# EAGLE library part FFC/FPC8 (library vikc-connector)
FFC/FPC Connector 0.5mm Pitch 8 position
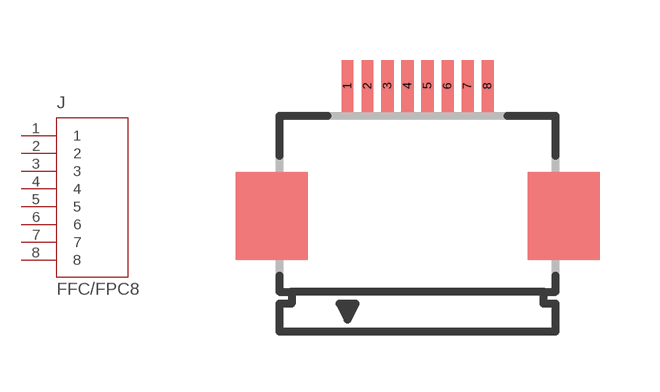
[diagram p2: symbol with the pads of FH12-8S-0.5SH; footprint FH12-8S-0.5SH]

Designator prefix J

## FFC/FPC8  [FH12-8S-0.5SH]
1  1
2  2
3  3
4  4
5  5
6  6
7  7
8  8

## Footprint FH12-8S-0.5SH (pad centres in mm)
0.5mm Pitch Connectors For FPC/FFC Source: Data sheet <http://www.hirose.co.jp/cataloge_hp/e58605370.pdf>
smd 0.3 x 1.3: 1 -1.75,3.25; 2 -1.25,3.25; 3 -0.75,3.25; 4 -0.25,3.25; 5 0.25,3.25; 6 0.75,3.25; 7 1.25,3.25; 8 1.75,3.25